# EAGLE library part PIC32MX570F512L (library ECE477_Guitutar)
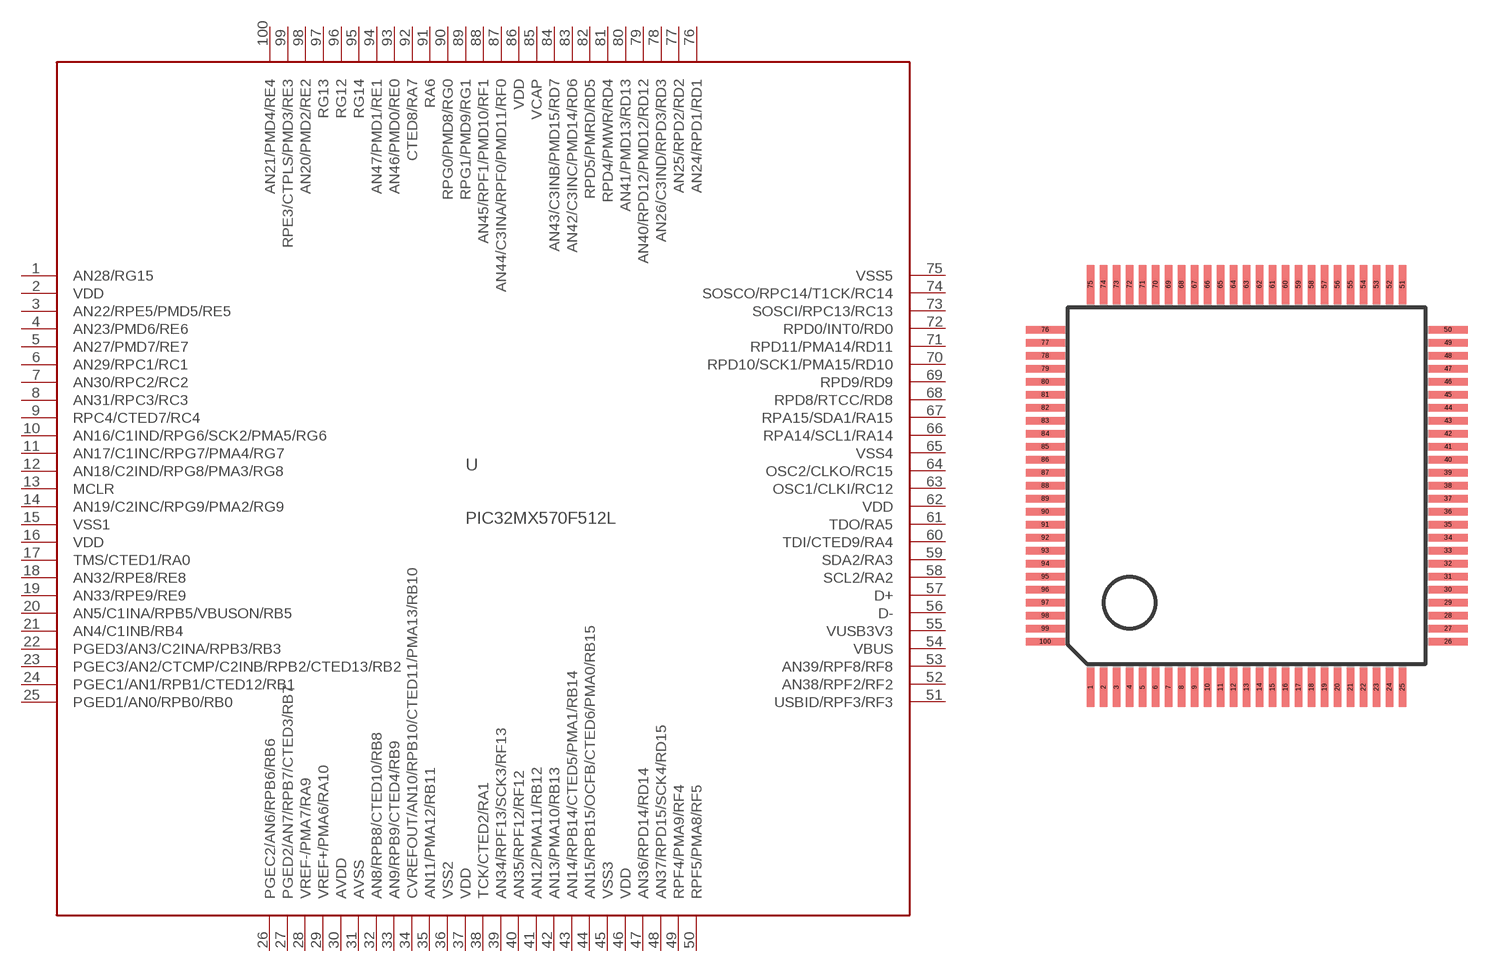
[diagram p0: symbol with the pads of TQFP100-14X14; footprint TQFP100-14X14]

Designator prefix -

## PIC32MX570F512L  [TQFP100-14X14]
1  AN28/RG15
2  VDD
3  AN22/RPE5/PMD5/RE5
4  AN23/PMD6/RE6
5  AN27/PMD7/RE7
6  AN29/RPC1/RC1
7  AN30/RPC2/RC2
8  AN31/RPC3/RC3
9  RPC4/CTED7/RC4
10  AN16/C1IND/RPG6/SCK2/PMA5/RG6
11  AN17/C1INC/RPG7/PMA4/RG7
12  AN18/C2IND/RPG8/PMA3/RG8
13  MCLR
14  AN19/C2INC/RPG9/PMA2/RG9
15  VSS1
16  VDD
17  TMS/CTED1/RA0
18  AN32/RPE8/RE8
19  AN33/RPE9/RE9
20  AN5/C1INA/RPB5/VBUSON/RB5
21  AN4/C1INB/RB4
22  PGED3/AN3/C2INA/RPB3/RB3
23  PGEC3/AN2/CTCMP/C2INB/RPB2/CTED13/RB2
24  PGEC1/AN1/RPB1/CTED12/RB1
25  PGED1/AN0/RPB0/RB0
26  PGEC2/AN6/RPB6/RB6
27  PGED2/AN7/RPB7/CTED3/RB7
28  VREF-/PMA7/RA9
29  VREF+/PMA6/RA10
30  AVDD
31  AVSS
32  AN8/RPB8/CTED10/RB8
33  AN9/RPB9/CTED4/RB9
34  CVREFOUT/AN10/RPB10/CTED11/PMA13/RB10
35  AN11/PMA12/RB11
36  VSS2
37  VDD
38  TCK/CTED2/RA1
39  AN34/RPF13/SCK3/RF13
40  AN35/RPF12/RF12
41  AN12/PMA11/RB12
42  AN13/PMA10/RB13
43  AN14/RPB14/CTED5/PMA1/RB14
44  AN15/RPB15/OCFB/CTED6/PMA0/RB15
45  VSS3
46  VDD
47  AN36/RPD14/RD14
48  AN37/RPD15/SCK4/RD15
49  RPF4/PMA9/RF4
50  RPF5/PMA8/RF5
51  USBID/RPF3/RF3
52  AN38/RPF2/RF2
53  AN39/RPF8/RF8
54  VBUS
55  VUSB3V3
56  D-
57  D+
58  SCL2/RA2
59  SDA2/RA3
60  TDI/CTED9/RA4
61  TDO/RA5
62  VDD
63  OSC1/CLKI/RC12
64  OSC2/CLKO/RC15
65  VSS4
66  RPA14/SCL1/RA14
67  RPA15/SDA1/RA15
68  RPD8/RTCC/RD8
69  RPD9/RD9
70  RPD10/SCK1/PMA15/RD10
71  RPD11/PMA14/RD11
72  RPD0/INT0/RD0
73  SOSCI/RPC13/RC13
74  SOSCO/RPC14/T1CK/RC14
75  VSS5
76  AN24/RPD1/RD1
77  AN25/RPD2/RD2
78  AN26/C3IND/RPD3/RD3
79  AN40/RPD12/PMD12/RD12
80  AN41/PMD13/RD13
81  RPD4/PMWR/RD4
82  RPD5/PMRD/RD5
83  AN42/C3INC/PMD14/RD6
84  AN43/C3INB/PMD15/RD7
85  VCAP
86  VDD
87  AN44/C3INA/RPF0/PMD11/RF0
88  AN45/RPF1/PMD10/RF1
89  RPG1/PMD9/RG1
90  RPG0/PMD8/RG0
91  RA6
92  CTED8/RA7
93  AN46/PMD0/RE0
94  AN47/PMD1/RE1
95  RG14
96  RG12
97  RG13
98  AN20/PMD2/RE2
99  RPE3/CTPLS/PMD3/RE3
100  AN21/PMD4/RE4

## Footprint TQFP100-14X14 (pad centres in mm)
Thin Quad Flat Pack 14x14 mm
smd 0.27 x 1.5: 1 -6,-7.75; 2 -5.5,-7.75; 3 -5,-7.75; 4 -4.5,-7.75; 5 -4,-7.75; 6 -3.5,-7.75; 7 -3,-7.75; 8 -2.5,-7.75; 9 -2,-7.75; 10 -1.5,-7.75; 11 -1,-7.75; 12 -0.5,-7.75; 13 0,-7.75; 14 0.5,-7.75; 15 1,-7.75; 16 1.5,-7.75; 17 2,-7.75; 18 2.5,-7.75; 19 3,-7.75; 20 3.5,-7.75; 21 4,-7.75; 22 4.5,-7.75; 23 5,-7.75; 24 5.5,-7.75; 25 6,-7.75; 51 6,7.75; 52 5.5,7.75; 53 5,7.75; 54 4.5,7.75; 55 4,7.75; 56 3.5,7.75; 57 3,7.75; 58 2.5,7.75; 59 2,7.75; 60 1.5,7.75; 61 1,7.75; 62 0.5,7.75; 63 0,7.75; 64 -0.5,7.75; 65 -1,7.75; 66 -1.5,7.75; 67 -2,7.75; 68 -2.5,7.75; 69 -3,7.75; 70 -3.5,7.75; 71 -4,7.75; 72 -4.5,7.75; 73 -5,7.75; 74 -5.5,7.75; 75 -6,7.75
smd 1.5 x 0.27: 26 7.75,-6; 27 7.75,-5.5; 28 7.75,-5; 29 7.75,-4.5; 30 7.75,-4; 31 7.75,-3.5; 32 7.75,-3; 33 7.75,-2.5; 34 7.75,-2; 35 7.75,-1.5; 36 7.75,-1; 37 7.75,-0.5; 38 7.75,0; 39 7.75,0.5; 40 7.75,1; 41 7.75,1.5; 42 7.75,2; 43 7.75,2.5; 44 7.75,3; 45 7.75,3.5; 46 7.75,4; 47 7.75,4.5; 48 7.75,5; 49 7.75,5.5; 50 7.75,6; 76 -7.75,6; 77 -7.75,5.5; 78 -7.75,5; 79 -7.75,4.5; 80 -7.75,4; 81 -7.75,3.5; 82 -7.75,3; 83 -7.75,2.5; 84 -7.75,2; 85 -7.75,1.5; 86 -7.75,1; 87 -7.75,0.5; 88 -7.75,0; 89 -7.75,-0.5; 90 -7.75,-1; 91 -7.75,-1.5; 92 -7.75,-2; 93 -7.75,-2.5; 94 -7.75,-3; 95 -7.75,-3.5; 96 -7.75,-4; 97 -7.75,-4.5; 98 -7.75,-5; 99 -7.75,-5.5; 100 -7.75,-6